# EAGLE library part KINGBRIGHT-7SEGMENT-SA52-11-13.2MM (library hsk_2012)
7-segment DISPLAY single anode, 13 mm
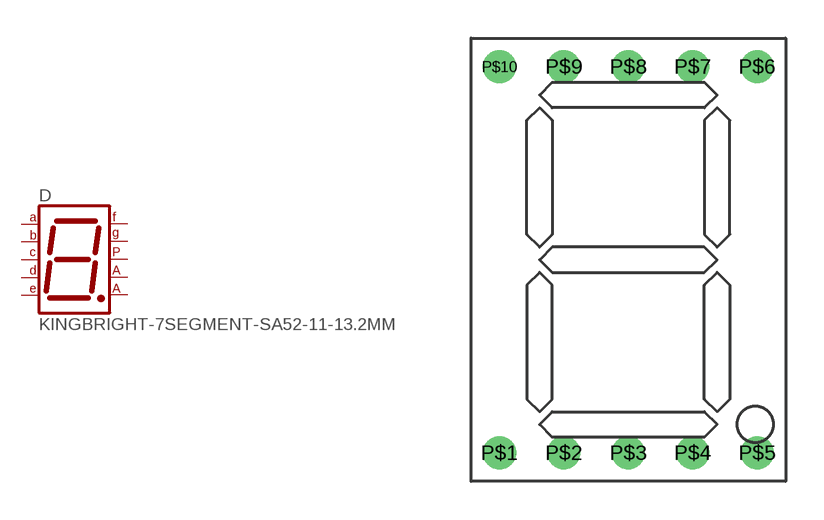
[diagram p15: symbol with the pads of KINGBRIGHT-7SEGMENT-SA52-11-13.2MM; footprint KINGBRIGHT-7SEGMENT-SA52-11-13.2MM]

Designator prefix D

## KINGBRIGHT-7SEGMENT-SA52-11-13.2MM  [KINGBRIGHT-7SEGMENT-SA52-11-13.2MM]
P$1  E  pas
P$2  D  pas
P$3  CA1  pas
P$4  C  pas
P$5  DP  pas
P$6  B  pas
P$7  A  pas
P$8  CA2  pas
P$9  F  pas
P$10  G  pas

## Footprint KINGBRIGHT-7SEGMENT-SA52-11-13.2MM (pad centres in mm)
drill 0.8: P$1 -5.08,-7.62; P$2 -2.54,-7.62; P$3 0,-7.62; P$4 2.54,-7.62; P$5 5.08,-7.62; P$6 5.08,7.62; P$7 2.54,7.62; P$8 0,7.62; P$9 -2.54,7.62; P$10 -5.08,7.62